# Altium footprint library ece components.PcbLib: 102 footprints (part 5 of 7)
Each footprint in its own frame and in the unit in brackets; x right, y up, seen from the top. Pads: shape width x height; smd on the part's side, far side on the other; paste and mask are expansions set on the pad; w line width, h text height; cw(c..) or ccw(c..) is an arc to the next point about the centre after c.
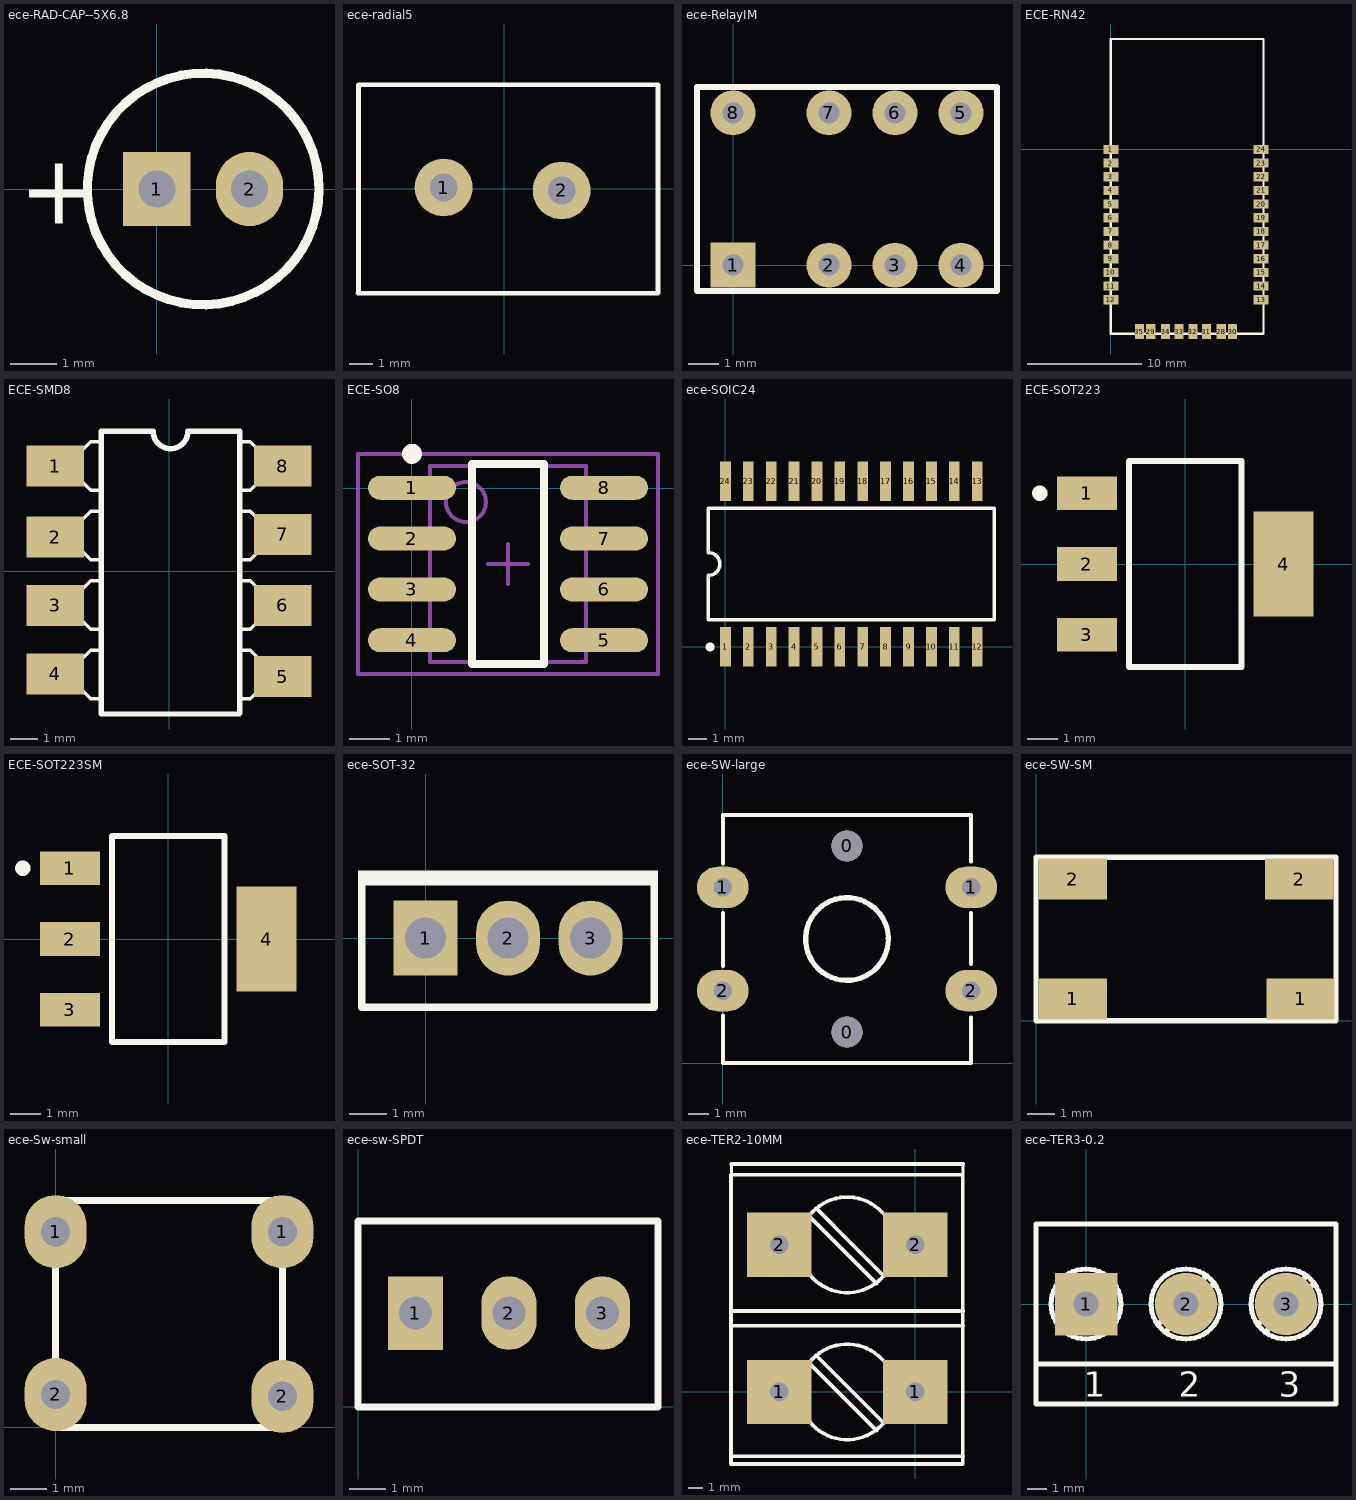
[diagram p4: the footprints below, top view; thin cyan lines are the x and y axes]

## ece-RAD-CAP--5X6.8 [mm] "Cap 5 X 6.8"
pads (2):
  rect 1.45x1.6 hole 0.8: 1(0,0)
  oval 1.45x1.6 hole 0.8: 2(2,0)
Top Overlay:
  circle w0.2: c1,0 r2.5
  text "+" at -2.975,-0.75 h1.5

## ece-radial5 [mm]
pads (2):
  round 2.5 hole 1.2: 1(-2.618,0.055) 2(2.488,-0.071)
Top Overlay:
  lines w0.2: -6.323,-4.517 6.655,-4.517 6.655,4.498 -6.303,4.498 -6.303,-4.497

## ece-RelayIM [mm]
height 5.65
pads (8):
  rect 1.5x1.5 hole 0.7: 1(0,0)
  round 1.5 hole 0.7: 2(3.2,0) 3(5.4,0) 4(7.6,0) 5(7.6,5.08) 6(5.4,5.08) 7(3.2,5.08) 8(0,5.08)
Top Overlay:
  lines w0.2: -1.2,-0.86 8.8,-0.86 8.8,5.94 -1.2,5.94 -1.2,-0.86

## ECE-RN42 [mm]
pads (32):
  rect 1.3x0.8 smd: 1(0,0) 2(0,-1.2) 3(0,-2.4) 4(0,-3.6) 5(0,-4.8) 6(0,-6) 7(0,-7.2) 8(0,-8.4) 9(0,-9.6) 10(0,-10.8) 11(0,-12) 12(0,-13.2) 13(13.2,-13.2) 14(13.2,-12) 15(13.2,-10.8) 16(13.2,-9.6) 17(13.2,-8.4) 18(13.2,-7.2) 19(13.2,-6) 20(13.2,-4.8) 21(13.2,-3.6) 22(13.2,-2.4) 23(13.2,-1.2) 24(13.2,0)
  rect 0.8x1.3 smd: 28(9.7,-16) 29(3.5,-16) 30(10.7,-16) 31(8.4,-16) 32(7.2,-16) 33(6,-16) 34(4.8,-16) 35(2.5,-16)
Top Overlay:
  lines w0.2: 0,-16.2 13.4,-16.2 ; 0,-16.1 0,9.7 13.4,9.7 13.4,-16.1

## ECE-SMD8 [mm]
pads (8):
  rect 2.1x1.5 smd: 1(-4.155,3.85) 2(-4.155,1.25) 3(-4.155,-1.25) 4(-4.155,-3.75) 5(4.155,-3.85) 6(4.155,-1.25) 7(4.155,1.35) 8(4.155,3.85)
Top Overlay:
  lines w0.127: -2.485,-4.659 -2.866,-4.659 -3.374,-4.151 -3.755,-4.151 -3.755,-3.389 -3.374,-3.389 -2.866,-2.881 -2.485,-2.881 ; -2.485,-2.119 -2.866,-2.119 -3.374,-1.611 -3.755,-1.611 -3.755,-0.849 -3.374,-0.849 -2.866,-0.341 -2.485,-0.341 ; -2.485,0.421 -2.866,0.421 -3.374,0.929 -3.755,0.929 -3.755,1.691 -3.374,1.691 -2.866,2.199 -2.485,2.199 ; -2.485,2.961 -2.866,2.961 -3.374,3.469 -3.755,3.469 -3.755,4.231 -3.374,4.231 -2.866,4.739 -2.485,4.739 ; 2.595,-4.659 2.976,-4.659 3.484,-4.151 3.865,-4.151 3.865,-3.389 3.484,-3.389 2.976,-2.881 2.595,-2.881 ; 2.595,-2.119 2.976,-2.119 3.484,-1.611 3.865,-1.611 3.865,-0.849 3.484,-0.849 2.976,-0.341 2.595,-0.341 ; 2.595,0.421 2.976,0.421 3.484,0.929 3.865,0.929 3.865,1.691 3.484,1.691 2.976,2.199 2.595,2.199 ; 2.595,2.961 2.976,2.961 3.484,3.469 3.865,3.469 3.865,4.231 3.484,4.231 2.976,4.739 2.595,4.739
  lines w0.2: -2.485,5.12 -2.485,-5.22 2.575,-5.22 ; 2.595,-5.2 2.595,5.12
  lines w0.203: -2.485,5.12 -0.58,5.12 ccw(c0.055,5.12) 0.69,5.12 2.595,5.12

## ECE-SO8 [mm]
pads (8):
  oval 2.2x0.6 smd: 1(0,0.01) 2(0,-1.26) 3(0,-2.53) 4(0,-3.8) 5(4.8,-3.8) 6(4.8,-2.53) 7(4.8,-1.26) 8(4.8,0.01)
Top Overlay:
  circle w0.25: c0,0.86 r0.125
  lines w0.2: 1.5,-4.395 3.3,-4.395 3.3,0.605 1.5,0.605 1.5,-4.395
Mechanical 13:
  circle w0.1: c1.35,-0.345 r0.5
  lines w0.1: 0.45,-4.345 4.35,-4.345 4.35,0.555 0.45,0.555 0.45,-4.345
Mechanical 15:
  lines w0.1: 1.9,-1.895 2.9,-1.895 ; 2.4,-2.395 2.4,-1.395 ; -1.35,-4.645 6.15,-4.645 6.15,0.855 -1.35,0.855 -1.35,-4.645
3D body: height 1.75, standoff 0, extent 0.45,-4.345 4.35,0.555

## ece-SOIC24 [mm]
pads (24):
  rect 0.6x2.2 smd: 1(0,0) 2(1.27,0) 3(2.54,0) 4(3.81,0) 5(5.08,0) 6(6.35,0) 7(7.62,0) 8(8.89,0) 9(10.16,0) 10(11.43,0) 11(12.7,0) 12(13.97,0) 13(13.97,9.2) 14(12.7,9.2) 15(11.43,9.2) 16(10.16,9.2) 17(8.89,9.2) 18(7.62,9.2) 19(6.35,9.2) 20(5.08,9.2) 21(3.81,9.2) 22(2.54,9.2) 23(1.27,9.2) 24(0,9.2)
Top Overlay:
  circle w0.25: c-0.85,0 r0.125
  lines w0.2: -0.94,1.5 14.91,1.5 14.91,7.7 -0.94,7.7 -0.94,5.235 cw(c-0.94,4.6) -0.94,3.965 -0.94,1.5

## ECE-SOT223 [mm]
pads (4):
  rect 1.95x1.1 smd: 1(-3.2,2.3) 2(-3.2,0) 3(-3.2,-2.3)
  rect 1.95x3.4 smd: 4(3.2,0)
Top Overlay:
  circle w0.25: c-4.725,2.3 r0.125
  lines w0.2: -1.825,-3.35 1.825,-3.35 1.825,3.35 -1.825,3.35 -1.825,-3.35
3D body "SOT-223.STEP": height 0.68, standoff -1, extent -3.48,-3.25 3.48,3.25

## ECE-SOT223SM [mm] "Transistor SOT223 Body 6.7X3.7X1.8"
height 1.8
pads (4):
  rect 1.95x1.1 smd: 1(-3.2,2.3) 2(-3.2,0) 3(-3.2,-2.3)
  rect 1.95x3.4 smd: 4(3.2,0)
Top Overlay:
  circle w0.25: c-4.725,2.3 r0.125
  lines w0.2: -1.825,-3.35 -1.825,3.35 1.825,3.35 1.825,-3.35 -1.825,-3.35
3D body "SOT-223.STEP": height 0.68, standoff -1, extent -3.48,-3.25 3.48,3.25

## ece-SOT-32 [mm] "SIP with Mounting Hole; 3 Leads; Body 10.7 x 7.6 x 2.6 mm (typ); Pitch 2.2 mm"
height 13.4
pads (3):
  rect 1.7x2 hole 1.1: 1(0,0)
  oval 1.7x2 hole 1.1: 2(2.2,0) 3(4.4,0)
Top Overlay:
  rectangle: -1.8,1.4 6.2,1.8
  lines w0.2: -1.7,1.4 -1.7,-1.85 6.1,-1.85 6.1,1.4

## ece-SW-large [mm]
pads (6):
  round 1.5 hole 1.5: 0(6,1.5) 0(6,10.5)
  oval 2.5x2 hole 0.9: 1(0,8.5) 1(12,8.5) 2(0,3.5) 2(12,3.5)
Top Overlay:
  lines w0.2: 0,2.3 0,2.25 0,0 12,0 12,2.2 ; 0,4.7 0,7.25 ; 0,9.65 0,12 12,12 12,9.75 ; 12,4.8 12,7.25
  lines w0.254: 8,6 cw(c6,6) 8,6.038

## ece-SW-SM [mm]
pads (4):
  rect 2.5x1.5 smd: 1(1.35,0.8) 1(9.7,0.8) 2(1.35,5.2) 2(9.65,5.2)
Top Overlay:
  lines w0.2: 0,0 11,0 11,6 0,6 0,0

## ece-Sw-small [mm]
pads (4):
  oval 1.7x2 hole 0.8: 1(0,5.35) 1(6.2,5.35) 2(0,0.9) 2(6.2,0.85)
Top Overlay:
  lines w0.2: 0,6 0,0 ; 6.2,0.2 6.2,6.2 ; 0,0 0,6.2 6.2,6.2 ; 0,0 6.2,0 6.2,6.2

## ece-sw-SPDT [mm] "PCB mountable spdt switch"
height 15
pads (3):
  rect 1.5x2 hole 0.9: 1(1.56,2.55)
  oval 1.5x2 hole 0.9: 2(4.1,2.55) 3(6.64,2.55)
Top Overlay:
  lines w0.2: 7.62,0 0,0 ; 0,0 0,2.54 0,5.05 8.15,5.05 8.15,0 0,0

## ece-TER2-10MM [mil]
pads (4):
  rect 175x175 hole 50: 1(-370,0) 1(0,0) 2(-370,400) 2(0,400)
Top Overlay:
  circle w10: c-185,400 r130
  circle w10: c-185,0 r130
  lines w7.87: -500,592 -500,620 ; 130,592 130,620
  lines w10: -500,-175 130,-175 ; -500,180 130,180 ; -500,220 130,220 ; -500,620 130,620 ; -290,80 -210,0 -105,-105 ; -290,480 -210,400 -105,295 ; -270,100 -170,0 -85,-85 ; -270,500 -170,400 -85,315 ; -501,-196 129,-196 129,591 -501,591 -501,-196

## ece-TER3-0.2 [mm] "3 way screw terminal"
pads (3):
  rect 3.175x3.175 hole 1.27: 1(0,0)
  round 3.175 hole 1.27: 2(5.08,0) 3(10.16,0)
Top Overlay:
  circle w0.254: c5.08,0 r1.778
  circle w0.254: c0,0 r1.778
  circle w0.254: c10.16,0 r1.778
  lines w0.254: -2.54,-3.048 12.7,-3.048 ; -1.397,-1.016 0,0.381 1.016,1.397 ; -1.016,-1.397 0,-0.381 1.397,1.016 ; 3.683,-1.016 5.08,0.381 6.096,1.397 ; 4.064,-1.397 5.08,-0.381 6.477,1.016 ; 8.763,-1.016 10.16,0.381 11.176,1.397 ; 9.144,-1.397 10.16,-0.381 11.557,1.016 ; -2.54,-5.08 12.7,-5.08 12.7,4.064 -2.54,4.064 -2.54,-5.08
  text "3" at 9.779,-4.699 h1.27
  text "2" at 4.699,-4.699 h1.27
  text "1" at -0.127,-4.699 h1.27